# EAGLE library part L6470* (library L6470)
Description The L6470 device, realized in analog mixed signal technology, is an advanced fully integrated solution suitable for driving two-phase bipolar stepper motors with microstepping. It integrates a dual low RDS(on) DMOS full bridge with all of the power switches equipped with an accurate onchip current sensing circuitry suitable for nondissipative current control and overcurrent protection. Thanks to a unique control system, a true 1/128 steps resolution is achieved. The digital control core can generate user defined motion profiles with acceleration, deceleration, speed or target position, easily programmed through a dedicated registers set. All commands and data registers, including those used to set analogue values (i.e. current control value, current protection trip point, deadtime, PWM frequency, etc.) are sent through a standard 5-Mbit/s SPI. A very rich set of protections (thermal, low bus voltage, overcurrent, motor stall) allows the design of a fully protected application, as required by the most demanding motor control applications. Applications  Bipolar stepper motors Features  Operating voltage: 8 - 45 V  7.0 A out peak current (3.0 A r.m.s.)  Low RDS(on) Power MOSFETs  Programmable speed profile and positioning  Programmable power MOS slew rate  Up to 1/128 microstepping  Sensorless stall detection  SPI interface  Low quiescent and standby currents  Programmable non-dissipative overcurrent protection on high and low-side  Two-levels of overtemperature protection
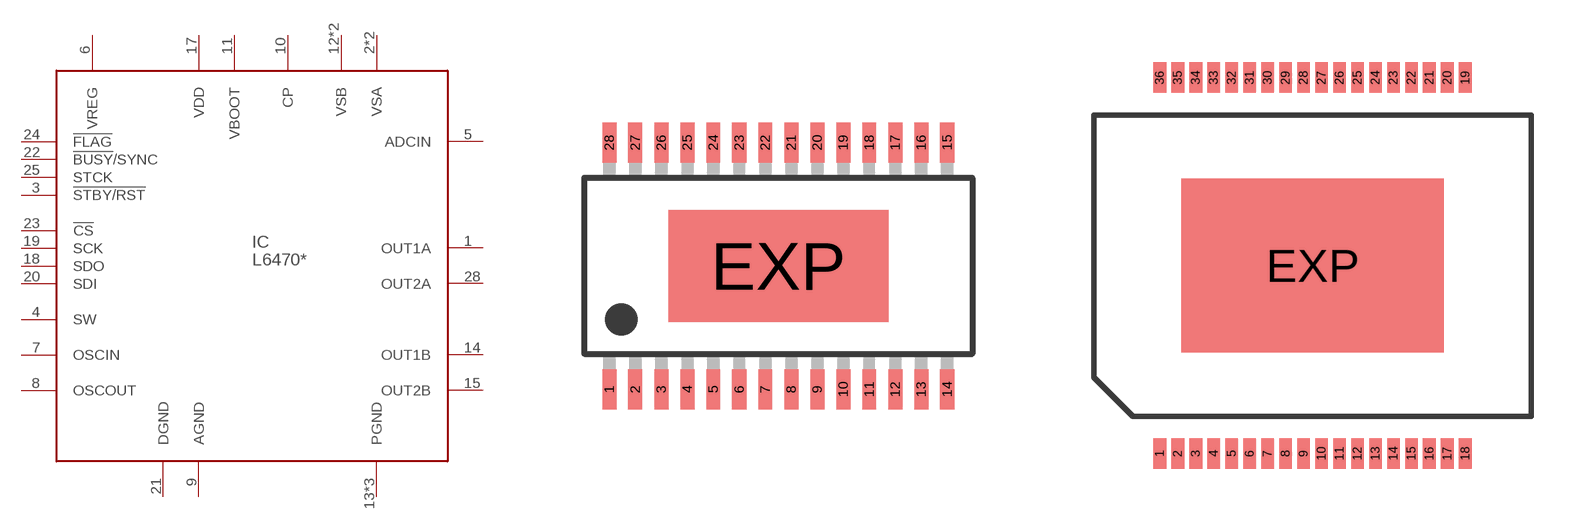
[diagram p0: symbol with the pads of HTSSOP28; footprints HTSSOP28, POWER-SO36]

Designator prefix IC

## L6470H  [HTSSOP28]
1  OUT1A
2  VSA
3  !STBY/RST!
4  SW
5  ADCIN
6  VREG
7  OSCIN
8  OSCOUT
9  AGND
10  CP
11  VBOOT
12  VSB
13  PGND
14  OUT1B
15  OUT2B
16  VSB
17  VDD
18  SDO
19  SCK
20  SDI
21  DGND
22  !BUSY!/SYNC
23  !CS!
24  !FLAG!
25  STCK
26  VSA
27  PGND
28  OUT2A
EXP  PGND

## L6470PD  [POWER-SO36]
1  PGND
2  OUT1A
3  OUT1A
4  VSA
5  VSA
6  !STBY/RST!
7  SW
8  ADCIN
9  VREG
10  OSCIN
11  OSCOUT
12  AGND
13  CP
14  VBOOT
15  VSB
16  VSB
17  OUT1B
18  OUT1B
19  PGND
20  OUT2B
21  OUT2B
22  VSB
23  VSB
24  VDD
25  SDO
26  SCK
27  SDI
28  DGND
29  !BUSY!/SYNC
30  !CS!
31  !FLAG!
32  STCK
33  VSA
34  VSA
35  OUT2A
36  OUT2A
EXP  PGND

## Footprint HTSSOP28 (pad centres in mm)
HTSSOP28
smd 0.35 x 1: 1 -4.225,-3.087; 2 -3.575,-3.087; 3 -2.925,-3.087; 4 -2.275,-3.087; 5 -1.625,-3.087; 6 -0.975,-3.087; 7 -0.325,-3.087; 8 0.325,-3.087; 9 0.975,-3.087; 10 1.625,-3.087; 11 2.275,-3.087; 12 2.925,-3.087; 13 3.575,-3.087; 14 4.225,-3.087; 15 4.225,3.087; 16 3.575,3.087; 17 2.925,3.087; 18 2.275,3.087; 19 1.625,3.087; 20 0.975,3.087; 21 0.325,3.087; 22 -0.325,3.087; 23 -0.975,3.087; 24 -1.625,3.087; 25 -2.275,3.087; 26 -2.925,3.087; 27 -3.575,3.087; 28 -4.225,3.087
smd 5.5 x 2.8: EXP 0,0

## Footprint POWER-SO36 (pad centres in mm)
smd 0.46 x 1.1: 1 -5.525,-6.8; 2 -4.875,-6.8; 3 -4.225,-6.8; 4 -3.575,-6.8; 5 -2.925,-6.8; 6 -2.275,-6.8; 7 -1.625,-6.8; 8 -0.975,-6.8; 9 -0.325,-6.8; 10 0.325,-6.8; 11 0.975,-6.8; 12 1.625,-6.8; 13 2.275,-6.8; 14 2.925,-6.8; 15 3.575,-6.8; 16 4.225,-6.8; 17 4.875,-6.8; 18 5.525,-6.8; 19 5.525,6.8; 20 4.875,6.8; 21 4.225,6.8; 22 3.575,6.8; 23 2.925,6.8; 24 2.275,6.8; 25 1.625,6.8; 26 0.975,6.8; 27 0.325,6.8; 28 -0.325,6.8; 29 -0.975,6.8; 30 -1.625,6.8; 31 -2.275,6.8; 32 -2.925,6.8; 33 -3.575,6.8; 34 -4.225,6.8; 35 -4.875,6.8; 36 -5.525,6.8
smd 9.5 x 6.3: EXP 0,0